# EAGLE library part LM3103 (library national-semi)
Step-Down Voltage Regulator SIMPLE SWITCHERSynchronous 1MHz 0.75A
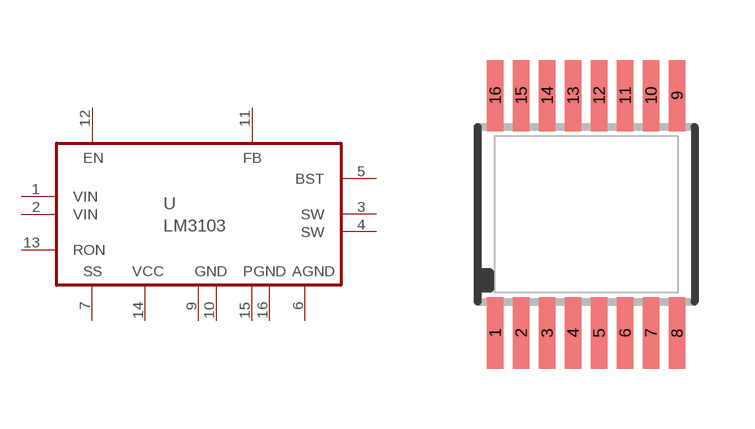
[diagram p17: symbol with the pads of TSSOP16-MXA16A; footprint TSSOP16-MXA16A]

Designator prefix U

## LM3103  [TSSOP16-MXA16A]
1  VIN  in
2  VIN  in
3  SW  pas
4  SW  pas
5  BST  in
6  AGND  pwr
7  SS  pas
9  GND  pwr
10  GND  pwr
11  FB  pas
12  EN  pas
13  RON  in
14  VCC  pas
15  PGND  pwr
16  PGND  pwr

## Footprint TSSOP16-MXA16A (pad centres in mm)
TSSOP16 - MXA16A Package Exposed pad variation
smd 0.42 x 1.78: 1 -2.275,-2.968; 2 -1.625,-2.968; 3 -0.975,-2.968; 4 -0.325,-2.968; 5 0.325,-2.968; 6 0.975,-2.968; 7 1.625,-2.968; 8 2.275,-2.968; 9 2.275,2.968; 10 1.625,2.968; 11 0.975,2.968; 12 0.325,2.968; 13 -0.325,2.968; 14 -0.975,2.968; 15 -1.625,2.968; 16 -2.275,2.968